# Altium footprint library PcbLib1.PcbLib: 218 footprints (part 1 of 14)
Each footprint in its own frame and in the unit in brackets; x right, y up, seen from the top. Pads: shape width x height; smd on the part's side, far side on the other; paste and mask are expansions set on the pad; w line width, h text height; cw(c..) or ccw(c..) is an arc to the next point about the centre after c.
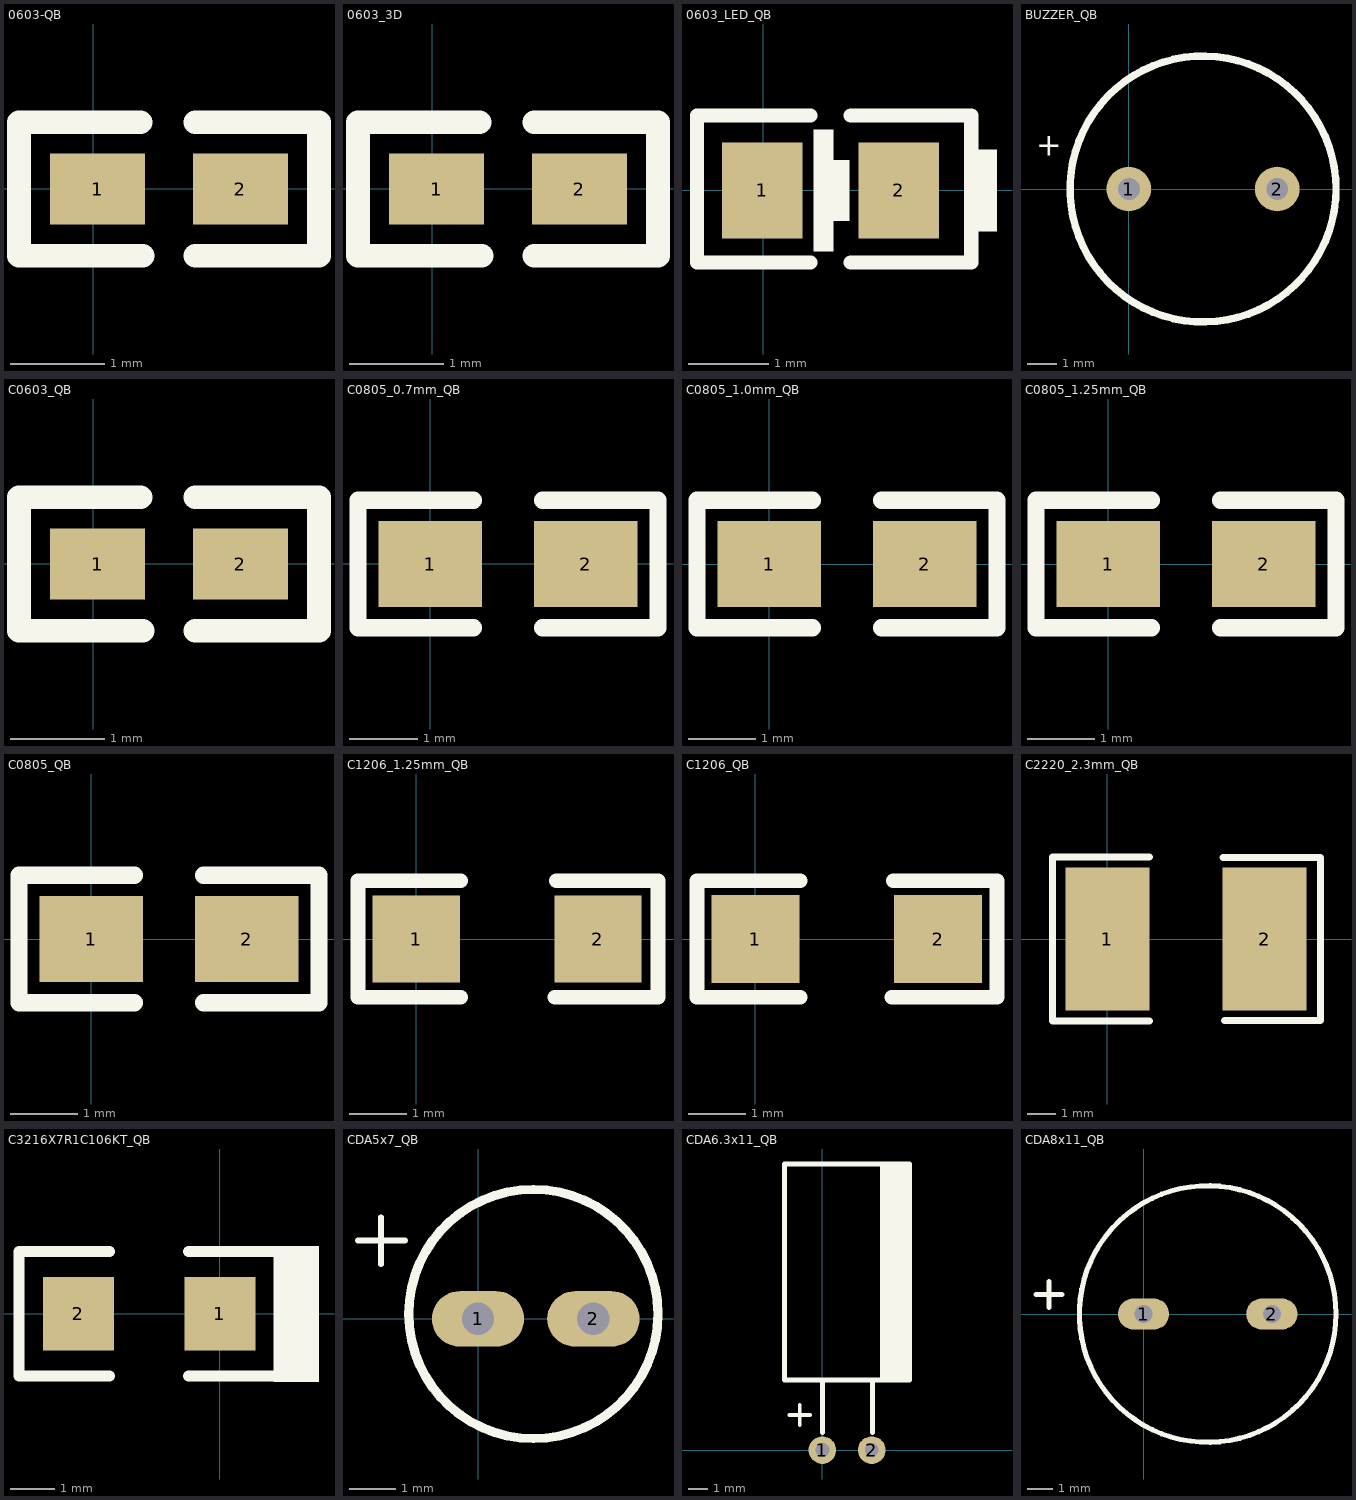
[diagram p0: the footprints below, top view; thin cyan lines are the x and y axes]

## 0603-QB [mil]
pads (2):
  rect 40x30 smd: 1(1.9,-0.1) 2(61.9,-0.1)
Top Overlay:
  lines w10: 19.9,27.9 -31.1,27.9 -31.1,-28.1 20.9,-28.1 ; 42.9,-28.1 94.9,-28.1 94.9,27.9 42.9,27.9
3D body: height 35.04, standoff 0, extent 0,-16.7 63.8,16.7

## 0603_3D [mil]
pads (2):
  rect 40x30 smd: 1(1.9,-0.1) 2(61.9,-0.1)
Top Overlay:
  lines w10: 19.9,27.9 -31.1,27.9 -31.1,-28.1 20.9,-28.1 ; 42.9,-28.1 94.9,-28.1 94.9,27.9 42.9,27.9
3D body: height 35.04, standoff 0, extent 0,-16.7 63.8,16.7

## 0603_LED_QB [mm]
pads (2):
  rect 1x1.2 smd: 1(-0.013,0) 2(1.687,0)
Top Overlay:
  rectangle: 2.587,-0.508 2.908,0.508
  rectangle: 0.622,-0.762 0.876,0.762
  rectangle: 0.749,-0.381 1.07,0.381
  lines w0.152: -0.826,0.831 -0.826,0.933
  lines w0.178: 0.587,-0.896 -0.826,-0.896 -0.826,0.933 0.587,0.933 ; 1.087,-0.896 2.587,-0.896 2.587,0.933 1.087,0.933
3D body: height 0.5, standoff 0, extent -0.013,-0.508 1.765,0.508
3D body: height 0.51, standoff 0, extent -0.025,-0.521 0.305,0.521
3D body: height 0.51, standoff 0, extent 1.448,-0.521 1.778,0.521

## BUZZER_QB [mil]
pads (2):
  round 60 hole 29.53: 1(0,0) 2(200,0)
Top Overlay:
  circle w10: c100,0 r179.13
  text "+" at -125,45 h30
3D body: height 196.85, standoff 0, extent -75.37,-179.77 277.56,173.87
3D body: height 0, standoff -102.36, extent -13.66,-13.75 13.79,13.76
3D body: height 0, standoff -102.36, extent 186.34,-13.75 213.79,13.76

## C0603_QB [mil]
pads (2):
  rect 40x30 smd: 1(1.9,-0.1) 2(61.9,-0.1)
Top Overlay:
  lines w10: 19.9,27.9 -31.1,27.9 -31.1,-28.1 20.9,-28.1 ; 42.9,-28.1 94.9,-28.1 94.9,27.9 42.9,27.9
3D body: height 35.04, standoff 0, extent 0,-16.7 63.8,16.7

## C0805_0.7mm_QB [mil]
height 27.56
pads (2):
  rect 60x50 smd: 1(0,0) 2(90,0)
Top Overlay:
  lines w10: 25,-37 -42,-37 -42,37 25,37 ; 65,-37 132,-37 132,37 65,37
3D body: height 27.56, standoff 0, extent 16.08,-25.03 75.14,24.18
3D body: height 27.56, standoff 0, extent 6.24,-25.03 16.08,24.18
3D body: height 27.56, standoff 0, extent 75.14,-25.03 84.98,24.18

## C0805_1.0mm_QB [mil]
height 39.37
pads (2):
  rect 60x50 smd: 1(0,0) 2(90,0)
Top Overlay:
  lines w10: 25,-37 -42,-37 -42,37 25,37 ; 65,-37 132,-37 132,37 65,37
3D body: height 39.37, standoff 0, extent 75.14,-25.03 84.98,24.18
3D body: height 39.37, standoff 0, extent 16.08,-25.03 75.14,24.18
3D body: height 39.37, standoff 0, extent 6.24,-25.03 16.08,24.18

## C0805_1.25mm_QB [mil]
height 49.21
pads (2):
  rect 60x50 smd: 1(0,0) 2(90,0)
Top Overlay:
  lines w10: 25,-37 -42,-37 -42,37 25,37 ; 65,-37 132,-37 132,37 65,37
3D body: height 49.21, standoff 0, extent 6.24,-25.03 16.08,24.18
3D body: height 49.21, standoff 0, extent 75.14,-25.03 84.98,24.18
3D body: height 49.21, standoff 0, extent 16.08,-25.03 75.14,24.18

## C0805_QB [mil] "高度未定"
pads (2):
  rect 60x50 smd: 1(0,0) 2(90,0)
Top Overlay:
  lines w10: 25,-37 -42,-37 -42,37 25,37 ; 65,-37 132,-37 132,37 65,37
3D body: height 49.21, standoff 0, extent 6.24,-25.03 16.08,24.18
3D body: height 49.21, standoff 0, extent 75.14,-25.03 84.98,24.18
3D body: height 49.21, standoff 0, extent 16.08,-25.03 75.14,24.18

## C1206_1.25mm_QB [mil]
height 49.21
pads (2):
  rect 60x60 smd: 1(0,0) 2(125,0)
Top Overlay:
  lines w10: 30.51,-40 -40,-40 -40,40 30.51,40 ; 95.47,-40 166.34,-40 166.34,40 96.46,40
3D body: height 49.21, standoff 0, extent 1.57,-34.25 11.81,32.28
3D body: height 49.21, standoff 0, extent 127.17,-34.25 137.4,32.28
3D body: height 49.21, standoff 0, extent 12.02,-34 127.16,32

## C1206_QB [mil]
pads (2):
  rect 60x60 smd: 1(0,0) 2(125,0)
Top Overlay:
  lines w10: 30.51,-40 -40,-40 -40,40 30.51,40 ; 93.5,-40 165.35,-40 165.35,40 94.49,40
3D body: height 49.21, standoff 0, extent 1,-34 137,32

## C2220_2.3mm_QB [mm] "C5750"
height 2.3
pads (2):
  rect 3x5.1 smd: 1(0,0) 2(5.6,0)
Top Overlay:
  lines w0.254: 1.503,-2.921 -1.967,-2.921 -1.967,2.93 1.503,2.93 ; 4.117,2.915 7.601,2.915 7.601,-2.907 4.171,-2.907
3D body: height 2.3, standoff 0, extent 4.985,-2.527 5.625,2.473
3D body: height 2.3, standoff 0, extent 0.565,-2.527 4.985,2.473
3D body: height 2.3, standoff 0, extent -0.075,-2.527 0.565,2.473

## C3216X7R1C106KT_QB [mm]
pads (2):
  rect 1.6x1.65 smd: 1(0,0) 2(-3.175,0)
Top Overlay:
  rectangle: 1.206,-1.537 2.222,1.524
  lines w0.254: -2.476,-1.397 -4.508,-1.397 -4.508,1.397 -2.476,1.397 ; -0.699,-1.397 1.206,-1.397 ; -0.699,1.397 1.206,1.397
3D body: height 1, standoff 0, extent -3.238,-0.762 0.191,0.762

## CDA5x7_QB [mm]
height 10.922
pads (2):
  oval 2x1.2 hole 0.7: 1(0,0) 2(2.5,0)
Top Overlay:
  circle w0.2: c1.2,0.105 r2.7
  lines w0.127: -2.6,1.7 -1.584,1.7 ; -2.1,1.184 -2.1,2.2
3D body: height 7, standoff 0, extent -1.28,-2.39 3.7,2.6

## CDA6.3x11_QB [mm]
height 6.3
pads (2):
  round 1.4 hole 0.7: 1(0,0) 2(2.5,0)
Top Overlay:
  rectangle: 2.921,3.556 4.4,14.478
  lines w0.2: -1.651,1.778 -0.635,1.778 ; -1.143,1.27 -1.143,2.286
  lines w0.254: 0,0.889 0,3.556 ; 2.54,0.889 2.54,3.556 ; -1.905,3.556 -1.905,14.478 4.4,14.478 4.4,3.556 -1.905,3.556
3D body: height 2.85, standoff 2.15, extent -0.381,-0.38 0.315,0.317
3D body: height 2.85, standoff 2.15, extent 2.159,-0.381 2.856,0.316
3D body: height 2.5, standoff -1, extent -0.381,-0.381 0.316,0.318
3D body: height 2.5, standoff -1, extent 2.159,-0.381 2.856,0.318
3D body: height 5.58, standoff -0.6, extent -1.778,3.39 4.41,14.39
3D body: height 2.85, standoff 2.15, extent -0.381,0.032 0.318,4.032
3D body: height 2.85, standoff 2.15, extent 2.159,0.032 2.858,4.032

## CDA8x11_QB [mm]
height 11
pads (2):
  oval 2x1.2 hole 0.7: 1(0,0) 2(5,0)
Top Overlay:
  circle w0.2: c2.5,0 r5
  lines w0.2: -4.191,0.762 -3.175,0.762 ; -3.683,0.254 -3.683,1.27
3D body: height 11.5, standoff 0, extent -1.524,-4.064 6.444,3.92